# EAGLE library part DEBUG_PORT (library Zoli2_2015-02-22)
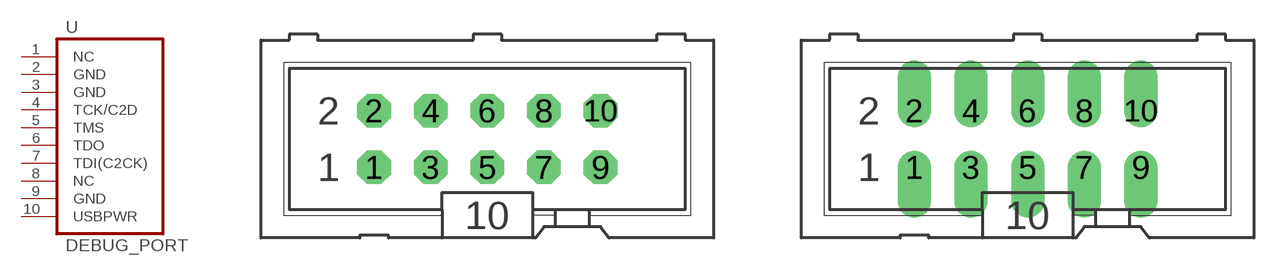
[diagram p45: symbol with the pads of ML10; footprints ML10, ML10_HOME]

Designator prefix -

## DEBUG_PORT  [ML10]
1  NC  pas
2  GND  pas
3  GND  pas
4  TCK/C2D  pas
5  TMS  pas
6  TDO  pas
7  TDI(C2CK)  pas
8  NC  pas
9  GND  pas
10  USBPWR  pas

## DEBUG_PORT-HOME  [ML10_HOME]
Pads as for ML10

## Footprint ML10 (pad centres in mm)
HARTING
drill 1 octagon: 1 -5.08,-1.27; 2 -5.08,1.27; 3 -2.54,-1.27; 4 -2.54,1.27; 5 0,-1.27; 6 0,1.27; 7 2.54,-1.27; 8 2.54,1.27; 9 5.08,-1.27; 10 5.08,1.27

## Footprint ML10_HOME (pad centres in mm)
drill 1 offset: 1 -5.08,-1.27; 2 -5.08,1.27; 3 -2.54,-1.27; 4 -2.54,1.27; 5 0,-1.27; 6 0,1.27; 7 2.54,-1.27; 8 2.54,1.27; 9 5.08,-1.27; 10 5.08,1.27